# EAGLE library part TACTSW_5WAY (library dooba)
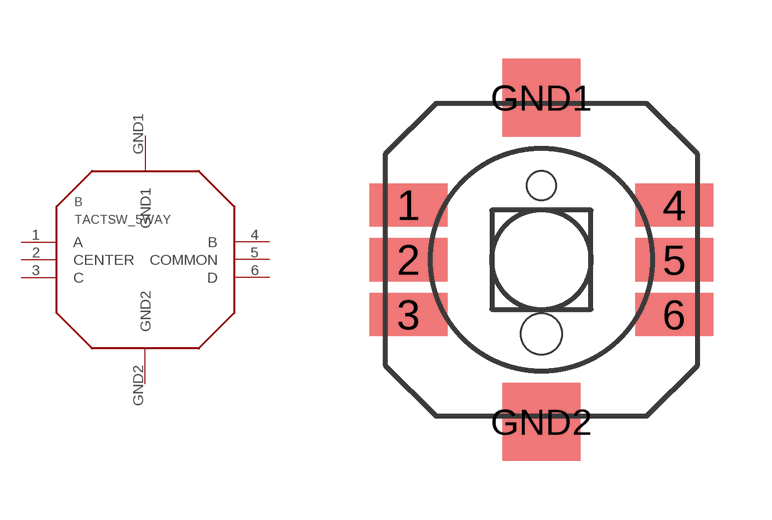
[diagram p35: symbol with the pads of TACTSW-5WAY-7X7; footprint TACTSW-5WAY-7X7]

Designator prefix B

## TACTSW_5WAYSMD-7X7  [TACTSW-5WAY-7X7]
1  A
2  CENTER
3  C
4  B
5  COMMON
6  D
GND1  GND1
GND2  GND2

## Footprint TACTSW-5WAY-7X7 (pad centres in mm)
smd 2 x 1.1: 1 -3.4,1.4; 2 -3.4,0; 3 -3.4,-1.4; 4 3.4,1.4; 5 3.4,0; 6 3.4,-1.4
smd 2 x 2: GND1 0,4.15; GND2 0,-4.15
hole 0.75 at 0,1.9
hole 1.05 at 0,-1.9